# Altium footprint library access_LIB.PcbLib: 4 footprints
Each footprint in its own frame and in the unit in brackets; x right, y up, seen from the top. Pads: shape width x height; smd on the part's side, far side on the other; paste and mask are expansions set on the pad; w line width, h text height; cw(c..) or ccw(c..) is an arc to the next point about the centre after c.
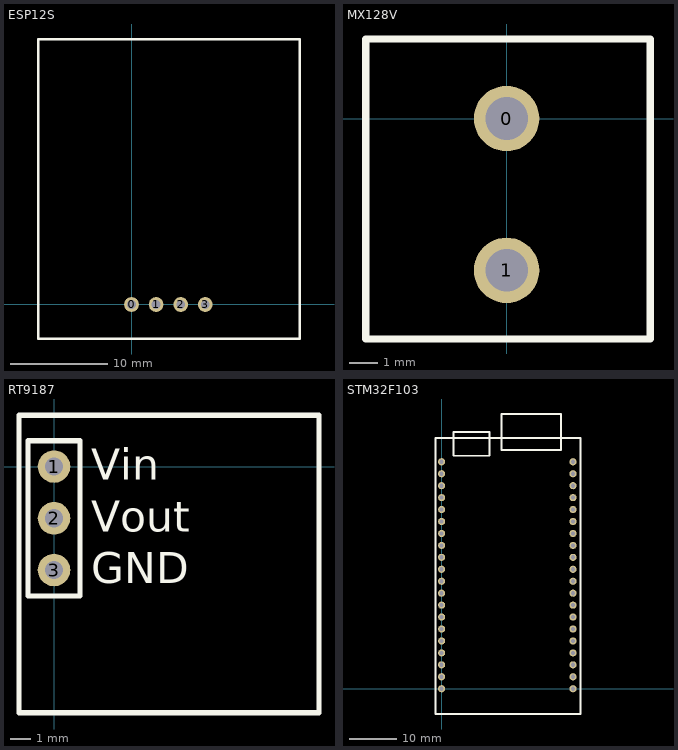
[diagram p0: the footprints below, top view; thin cyan lines are the x and y axes]

## ESP12S [mil]
pads (4):
  round 60 hole 35.43: 0(0,0) 1(100,0) 2(200,0) 3(300,0)
Top Overlay:
  lines w10: -380,-140.47 -380,1080 682.99,1080 ; -377.99,-140 685,-140 685,1080.47

## MX128V [mm]
pads (2):
  round 2.3 hole 1.5: 0(0,0) 1(0,-5.334)
Top Overlay:
  lines w0.254: -4.953,-7.747 5.05,-7.747 5.05,2.794 -4.953,2.794 -4.953,-7.747

## RT9187 [mm]
pads (3):
  round 1.6 hole 0.9: 1(0,0) 2(0,-2.54) 3(0,-5.08)
Top Overlay:
  lines w0.254: -1.72,-12.087 -1.72,2.518 13.012,2.518 13.012,-12.087 -1.72,-12.087 ; -1.27,-6.35 -1.27,1.27 1.27,1.27 1.27,-6.35 -1.27,-6.35
  text "Vin" at 1.836,-0.657 h1.52
  text "Vout" at 1.836,-3.197 h1.52
  text "GND" at 1.836,-5.737 h1.52

## STM32F103 [mil]
pads (40):
  round 60 hole 35.43: 0(1100,1900) 1(1100,1800) 2(1100,1700) 3(1100,1600) 4(1100,1500) 5(1100,1400) 6(1100,1300) 7(1100,1200) 8(1100,1100) 9(1100,1000) 10(1100,900) 11(1100,800) 12(1100,700) 13(1100,600) 14(1100,500) 15(1100,400) 16(1100,300) 17(1100,200) 18(1100,100) 19(1100,0) 20(0,1900) 21(0,1800) 22(0,1700) 23(0,1600) 24(0,1500) 25(0,1400) 26(0,1300) 27(0,1200) 28(0,1100) 29(0,1000) 30(0,900) 31(0,800) 32(0,700) 33(0,600) 34(0,500) 35(0,400) 36(0,300) 37(0,200) 38(0,100) 39(0,0)
Top Overlay:
  lines w15.75: -50,-211.42 -50,2100 1161.42,2100 1161.42,-211.42 -50,-211.42 ; 100,1950 400,1950 400,2150 100,2150 100,1950 ; 500,2000 1000,2000 1000,2300 500,2300 500,2000